# EAGLE library part DF40C-90DS-0.4V_51_ (library SamacSys_Parts)
HIROSE(HRS) - DF40C-90DS-0.4V(51) - CONNECTOR, STACKING, RCPT, 90POS, 2ROW Source: Datasheet <https://datasheet.datasheetarchive.com/originals/distributors/SFDatasheet-7/sf-000141247.pdf>
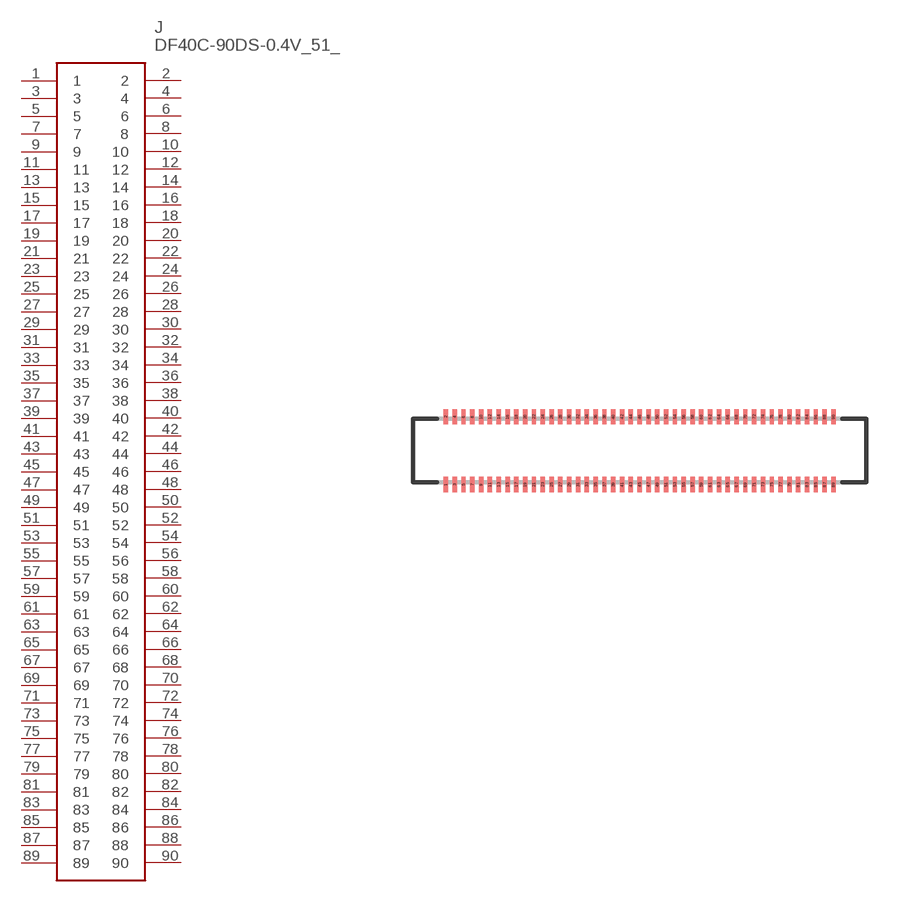
[diagram p194: symbol with the pads of DF40C-90DS-0.4V; footprint DF40C-90DS-0.4V]

Designator prefix J

## DF40C-90DS-0.4V_51_ (DESCRIPTION: HIROSE(HRS) - DF40C-90DS-0.4V(51) - CONNECTOR, STACKING, RCPT, 90POS, 2ROW; HEIGHT: mm; MANUFACTURER_NAME: Hirose; MANUFACTURER_PART_NUMBER: DF40C-90DS-0.4V(51); MOUSER_PART_NUMBER: 798-DF40C90DS0.4V51; MOUSER_PRICE-STOCK: https://www.mouser.co.uk/ProductDetail/Hirose-Connector/DF40C-90DS-04V51?qs=1RUxC5ic%2FMrFVUc5ctaeag%3D%3D)  [DF40C-90DS-0.4V]
1  1
2  2
3  3
4  4
5  5
6  6
7  7
8  8
9  9
10  10
11  11
12  12
13  13
14  14
15  15
16  16
17  17
18  18
19  19
20  20
21  21
22  22
23  23
24  24
25  25
26  26
27  27
28  28
29  29
30  30
31  31
32  32
33  33
34  34
35  35
36  36
37  37
38  38
39  39
40  40
41  41
42  42
43  43
44  44
45  45
46  46
47  47
48  48
49  49
50  50
51  51
52  52
53  53
54  54
55  55
56  56
57  57
58  58
59  59
60  60
61  61
62  62
63  63
64  64
65  65
66  66
67  67
68  68
69  69
70  70
71  71
72  72
73  73
74  74
75  75
76  76
77  77
78  78
79  79
80  80
81  81
82  82
83  83
84  84
85  85
86  86
87  87
88  88
89  89
90  90

## Footprint DF40C-90DS-0.4V (pad centres in mm)
DF40C-90DS-0.4V
smd 0.2 x 0.7: 1 -8.8,-1.54; 2 -8.8,1.54; 3 -8.4,-1.54; 4 -8.4,1.54; 5 -8,-1.54; 6 -8,1.54; 7 -7.6,-1.54; 8 -7.6,1.54; 9 -7.2,-1.54; 10 -7.2,1.54; 11 -6.8,-1.54; 12 -6.8,1.54; 13 -6.4,-1.54; 14 -6.4,1.54; 15 -6,-1.54; 16 -6,1.54; 17 -5.6,-1.54; 18 -5.6,1.54; 19 -5.2,-1.54; 20 -5.2,1.54; 21 -4.8,-1.54; 22 -4.8,1.54; 23 -4.4,-1.54; 24 -4.4,1.54; 25 -4,-1.54; 26 -4,1.54; 27 -3.6,-1.54; 28 -3.6,1.54; 29 -3.2,-1.54; 30 -3.2,1.54; 31 -2.8,-1.54; 32 -2.8,1.54; 33 -2.4,-1.54; 34 -2.4,1.54; 35 -2,-1.54; 36 -2,1.54; 37 -1.6,-1.54; 38 -1.6,1.54; 39 -1.2,-1.54; 40 -1.2,1.54; 41 -0.8,-1.54; 42 -0.8,1.54; 43 -0.4,-1.54; 44 -0.4,1.54; 45 0,-1.54; 46 0,1.54; 47 0.4,-1.54; 48 0.4,1.54; 49 0.8,-1.54; 50 0.8,1.54; 51 1.2,-1.54; 52 1.2,1.54; 53 1.6,-1.54; 54 1.6,1.54; 55 2,-1.54; 56 2,1.54; 57 2.4,-1.54; 58 2.4,1.54; 59 2.8,-1.54; 60 2.8,1.54; 61 3.2,-1.54; 62 3.2,1.54; 63 3.6,-1.54; 64 3.6,1.54; 65 4,-1.54; 66 4,1.54; 67 4.4,-1.54; 68 4.4,1.54; 69 4.8,-1.54; 70 4.8,1.54; 71 5.2,-1.54; 72 5.2,1.54; 73 5.6,-1.54; 74 5.6,1.54; 75 6,-1.54; 76 6,1.54; 77 6.4,-1.54; 78 6.4,1.54; 79 6.8,-1.54; 80 6.8,1.54; 81 7.2,-1.54; 82 7.2,1.54; 83 7.6,-1.54; 84 7.6,1.54; 85 8,-1.54; 86 8,1.54; 87 8.4,-1.54; 88 8.4,1.54; 89 8.8,-1.54; 90 8.8,1.54